# Altium footprint library TrafoPulso.PcbLib: 1 footprints
Each footprint in its own frame and in the unit in brackets; x right, y up, seen from the top. Pads: shape width x height; smd on the part's side, far side on the other; paste and mask are expansions set on the pad; w line width, h text height; cw(c..) or ccw(c..) is an arc to the next point about the centre after c.
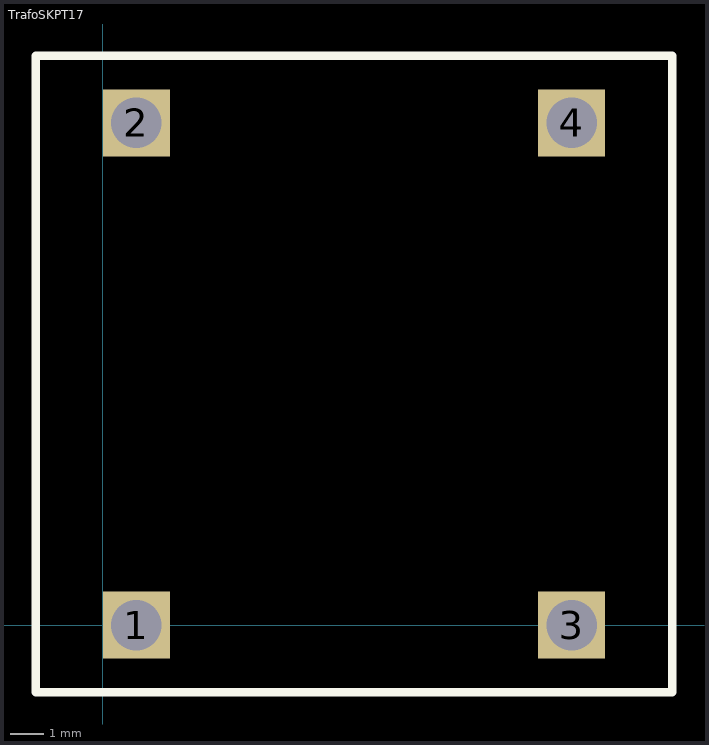
[diagram p0: the footprint, top view; thin cyan lines are the x and y axes]

## TrafoSKPT17 [mm]
pads (4):
  rect 2x2 hole 1.5: 1(1,0) 2(1,15) 3(14,0) 4(14,15)
Top Overlay:
  lines w0.254: -2,-2 17,-2 17,17 -2,17 -2,-2
3D body: height 14, standoff 1, extent -2,-2 17,17